# Altium integrated library Infineon_Power_Supply_Voltage_Regulator.IntLib: 346 symbols (part 10 of 16)
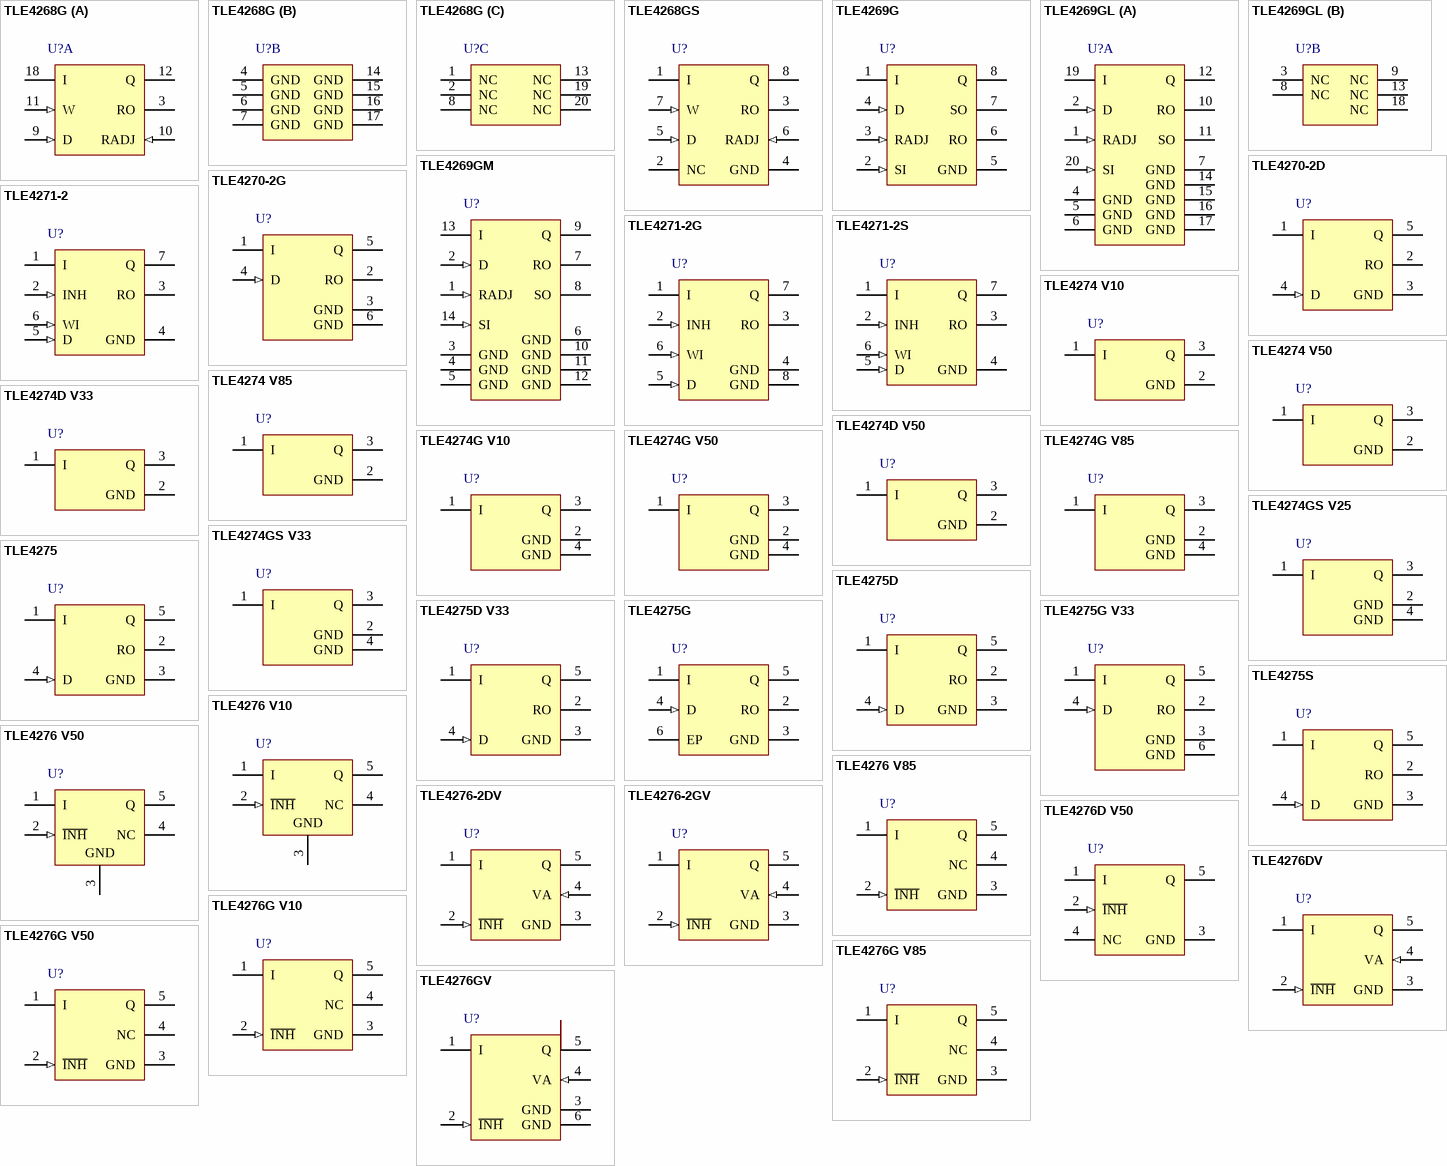
[diagram p18: symbols TLE4268G to TLE4276GV]

## TLE4276G V85
designator U?
Low Drop Voltage Regulator, 9 to 40 V Supply, 8.5 V Output, -40 to 150 degC, PG-TO263-5-1, Reel, Green; Manufacturer: Infineon; PartNumber: TLE4276G V85; Accuracy: 4 %; Dropout Voltage: 250 mV; Green: TRUE; Max. Output Current: 400 mA; Operating Range: 9 to 40 V; Output Voltage: 8.5V; Regulator Type: single output; Typical Quiescent Current: 100 uA; DatasheetVersion: Rev. 2.7; PackageVersion: Sep-08; PackageReference: PG-TO263-5-1; PackageDescription: 5-Pin Plastic (Green) Transistor Single Outline Package, 10 x 9.25 mm Body, 1.7 mm Pitch; Supplier 1: Digi-Key; Supplier Part Number 1: TLE4276G V85INTR-ND; Supplier 2: Digi-Key; Supplier Part Number 2: TLE4276G V85INCT-ND; Supplier 3: Digi-Key; Supplier Part Number 3: TLE4276G V85INDKR-ND; Halogen-free: TRUE; Packing: Reel; Mounting Technology: Surface Mount; ComponentLink1Description: Manufacturer URL; ComponentLink1URL: http://www.infineon.com/; ComponentLink2Description: Datasheet; ComponentLink2URL: http://www.infineon.com/dgdl/TLE4276_DS_27%5B1%5D.pdf?folderId=db3a30431ddc9372011e26863f92474e&fileId=db3a304325305e6d012559b3faeb46ce&location=en.Products.Automotive_ICs.Linear_Voltage_Regulators_for_Automotive-Applications.Linear_Voltage_Regulators_-_Selection_Table.DATASHEET.TLE4276_DS_27[1].pdf; ComponentLink3Description: Package Specification; ComponentLink3URL: http://www.infineon.com/dgdl/TLE4675_DS10.pdf?folderId=db3a30431ddc9372011e26863f92474e&fileId=db3a30431ff9881501201fa645654e52&sId=db3a30433d68e984013d8b6677a5267d
footprint INF-PG-TO263-5-1_N (DPAK, 5-Leads, Body 10x9.25mm, Pitch 1.7mm, IPC Medium Density)
footprint INF-PG-TO263-5-1_L (DPAK, 5-Leads, Body 10x9.25mm, Pitch 1.7mm, IPC High Density)
footprint INF-PG-TO263-5-1_M (DPAK, 5-Leads, Body 10x9.25mm, Pitch 1.7mm, IPC Low Density)
pins: 1 I (power) "Input; block to ground directly at the IC with a ceramic capacitor.", 2 ~{INH} (in) "Inhibit; low-active input.", 3 GND (power) "Ground", 4 NC "Not connected for V50, V85, V10", 5 Q (power) "Output; block to GND with a = 22 uF capacitor, ESR = 3 ohm at 10 kHz"

## TLE4276GV
designator U?
Low Drop Voltage Regulator, 4.5 to 40 V Supply, Adjustable Output, -40 to 150 degC, PG-TO263-5-1, Reel, Green; Manufacturer: Infineon; PartNumber: TLE4276GV; Accuracy: 4 %; Dropout Voltage: 250 mV; Green: TRUE; Max. Output Current: 400 mA; Output Voltage: adj.; Regulator Type: single output; Typical Quiescent Current: 100 uA; DatasheetVersion: Rev. 2.7; PackageVersion: Sep-08; PackageReference: PG-TO263-5-1; PackageDescription: 5-Pin Plastic (Green) Transistor Single Outline Package, 10 x 9.25 mm Body, 1.7 mm Pitch; Supplier 1: Mouser; Supplier Part Number 1: 726-TLE4276GV; Supplier 2: Digi-Key; Supplier Part Number 2: TLE4276GVINTR-ND; Supplier 3: Digi-Key; Supplier Part Number 3: TLE4276GVINCT-ND; Supplier 4: Digi-Key; Supplier Part Number 4: TLE4276GVINDKR-ND; Halogen-free: TRUE; Operating Range: 4.5 to 40 V; Packing: Reel; Mounting Technology: Surface Mount; ComponentLink1Description: Manufacturer URL; ComponentLink1URL: http://www.infineon.com/; ComponentLink2Description: Datasheet; ComponentLink2URL: http://www.infineon.com/dgdl/TLE4276_DS_27.pdf?folderId=db3a304318f3fe290118f5a433570040&fileId=db3a30431c48a312011c5093e2fe003f&location=en.Products.Automotive_ICs.Linear_Voltage_Regulators_for_Automotive-Applications.Linear_Voltage_Regulators_-_Selection_Table.DATASHEET.TLE4276_DS_27.pdf; ComponentLink3Description: Package Specification; ComponentLink3URL: http://www.infineon.com/dgdl/TLE4675_DS10.pdf?folderId=db3a30431ddc9372011e26863f92474e&fileId=db3a30431ff9881501201fa645654e52&sId=db3a30433d68e984013d8b6677a5267d
footprint INF-PG-TO263-5-1_N (DPAK, 5-Leads, Body 10x9.25mm, Pitch 1.7mm, IPC Medium Density)
footprint INF-PG-TO263-5-1_L (DPAK, 5-Leads, Body 10x9.25mm, Pitch 1.7mm, IPC High Density)
footprint INF-PG-TO263-5-1_M (DPAK, 5-Leads, Body 10x9.25mm, Pitch 1.7mm, IPC Low Density)
pins: 1 I (power) "Input; block to ground directly at the IC with a ceramic capacitor.", 2 ~{INH} (in) "Inhibit; low-active input.", 3 GND (power) "Ground", 4 VA (in) "Voltage Adjust Input; only for adjustable version. Connect an external voltage divider to determine the output voltage.", 5 Q (power) "Output; block to GND with a >= 22 uF capacitor, ESR =< 3 ohm at 10 kHz", 6 GND (power) "Connect to GND."

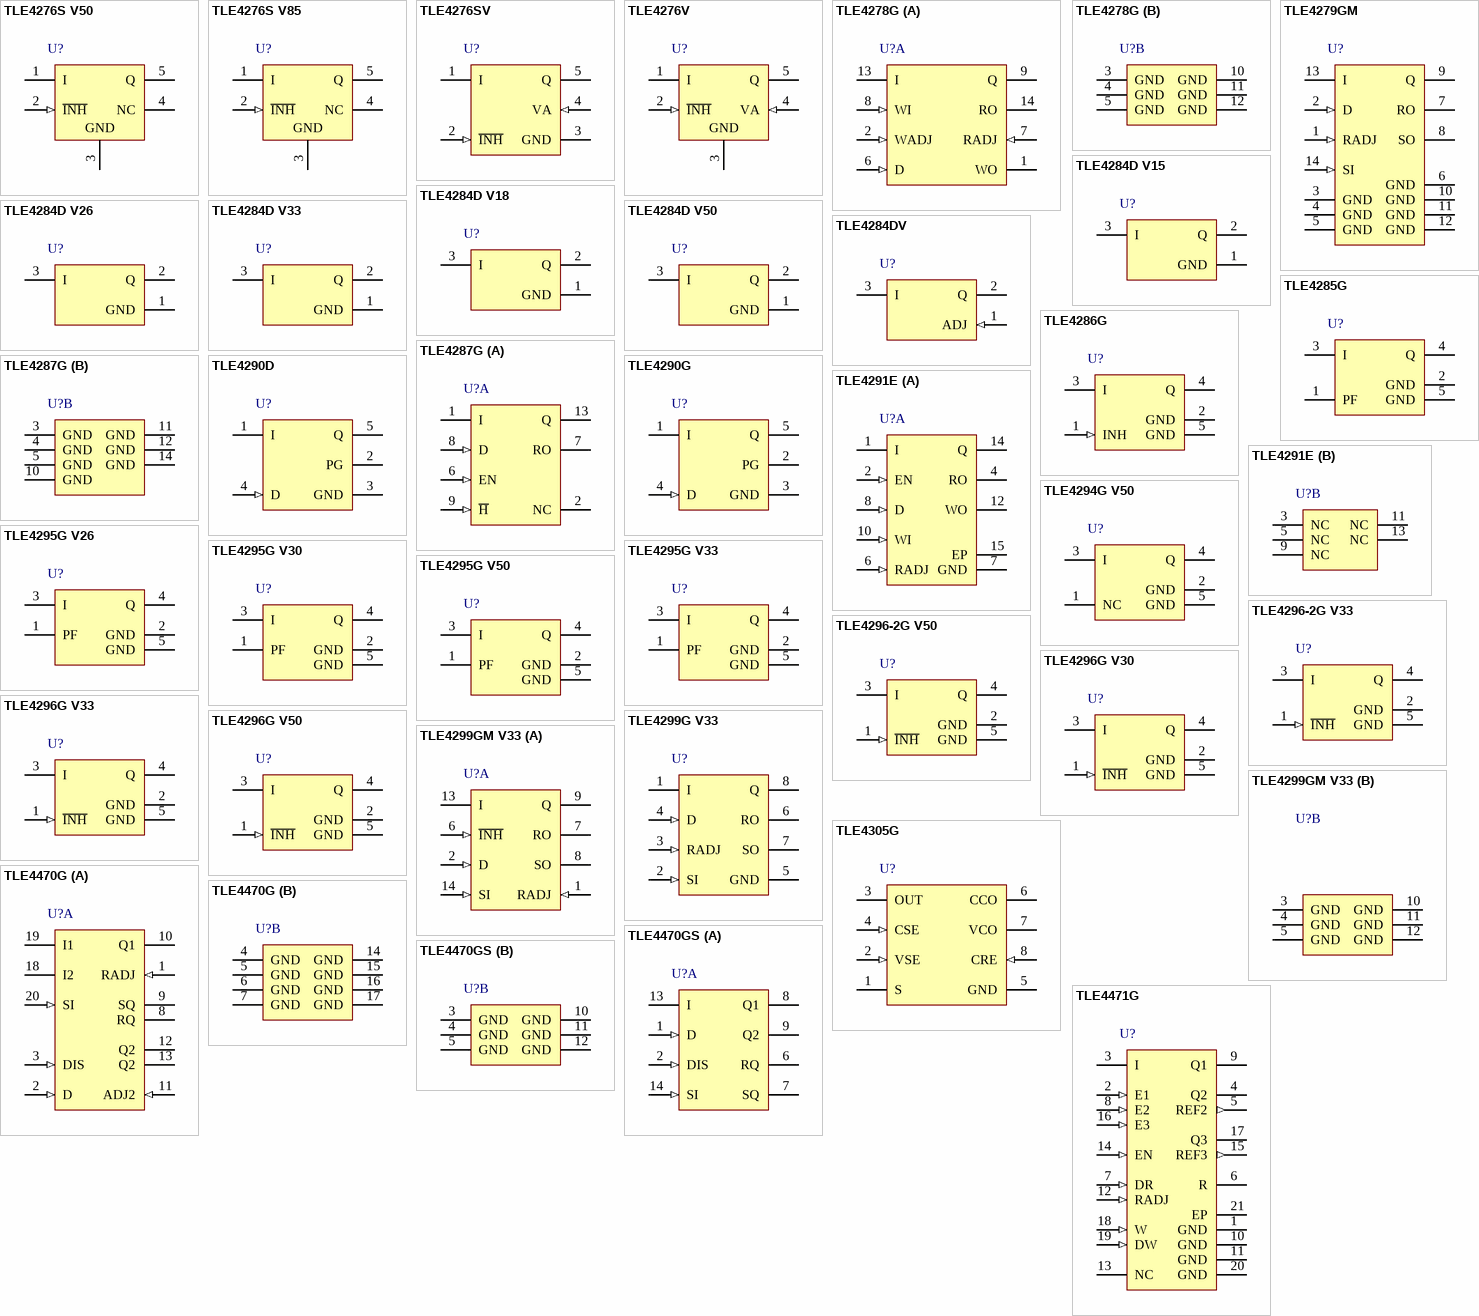
[diagram p6: symbols TLE4276S V50 to TLE4471G]

## TLE4276S V50
designator U?
Low Drop Voltage Regulator, -40 to 150 degC, PG-TO220-5-12, Tube, Green; Manufacturer: Infineon; PartNumber: TLE4276S V50; Green: TRUE; IQ (max): 1,100 mA; Iq (typ): 100 uA; VQ (max): 5.2 V; DatasheetVersion: Rev. 2.7; PackageVersion: Oct-07; PackageReference: PG-TO220-5-12; PackageDescription: 5-Pin Plastic (Green) Transistor Single Outline Package, 10 x 9.25 mm Body, 1.7 mm Pitch; Supplier 1: Digi-Key; Supplier Part Number 1: TLE4276S V50TR-ND; Supplier 2: Digi-Key; Supplier Part Number 2: TLE4276S V50-ND; Halogen-free: TRUE; Packing: Tube; Mounting Technology: Through Hole; ComponentLink1Description: Manufacturer URL; ComponentLink1URL: http://www.infineon.com/; ComponentLink2Description: Datasheet; ComponentLink2URL: http://www.infineon.com/dgdl/TLE4276_DS_27.pdf?folderId=db3a304318f3fe290118f5a433570040&fileId=db3a30431c48a312011c5093e2fe003f; ComponentLink3Description: Package Specification; ComponentLink3URL: http://www.infineon.com/dgdl/TLE4276_DS_27.pdf?folderId=db3a304318f3fe290118f5a433570040&fileId=db3a30431c48a312011c5093e2fe003f&sId=db3a30443d67b5ca013d81e346312d68
footprint INF-PG-TO220-5-12 (FM, 5-Leads, Body 10x4.4mm, Pitch 1.7mm)
pins: 1 I (power) "Input; block to ground directly at the IC with a ceramic capacitor", 2 ~{INH} (in) "Inhibit; low-active input.", 3 GND (power) "Ground", 4 NC "Not connected for V50, V85, V10", 5 Q (power) "Output; block to GND with a >= 22 uF capacitor, ESR =< 3 ohm at 10 kHz"

## TLE4276S V85
designator U?
Low Drop Voltage Regulator, -40 to 150 degC, PG-TO220-5-12, Tube, Green; Manufacturer: Infineon; PartNumber: TLE4276S V85; Green: TRUE; IQ (max): 1,100 mA; Iq (typ): 100 uA; VQ (max): 8.84 V; DatasheetVersion: Rev. 2.7; PackageVersion: Oct-07; PackageReference: PG-TO220-5-12; PackageDescription: 5-Pin Plastic (Green) Transistor Single Outline Package, 10 x 9.25 mm Body, 1.7 mm Pitch; Supplier 1: Digi-Key; Supplier Part Number 1: TLE4276S V85INTR-ND; Supplier 2: Digi-Key; Supplier Part Number 2: TLE4276S V85INCT-ND; Halogen-free: TRUE; Packing: Tube; Mounting Technology: Through Hole; ComponentLink1Description: Manufacturer URL; ComponentLink1URL: http://www.infineon.com/; ComponentLink2Description: Datasheet; ComponentLink2URL: http://www.infineon.com/dgdl/TLE4276_DS_27.pdf?folderId=db3a304318f3fe290118f5a433570040&fileId=db3a30431c48a312011c5093e2fe003f; ComponentLink3Description: Package Specification; ComponentLink3URL: http://www.infineon.com/dgdl/TLE4276_DS_27.pdf?folderId=db3a304318f3fe290118f5a433570040&fileId=db3a30431c48a312011c5093e2fe003f&sId=db3a30443d67b5ca013d81e346312d68
footprint INF-PG-TO220-5-12 (FM, 5-Leads, Body 10x4.4mm, Pitch 1.7mm)
pins: 1 I (power) "Input; block to ground directly at the IC with a ceramic capacitor", 2 ~{INH} (in) "Inhibit; low-active input.", 3 GND (power) "Ground", 4 NC "Not connected for V50, V85, V10", 5 Q (power) "Output; block to GND with a >= 22 uF capacitor, ESR =< 3 ohm at 10 kHz"

## TLE4276SV
designator U?
Low Drop Voltage Regulator, 4.5 to 40 V Supply, Adjustable Output, -40 to 150 degC, PG-TO220-5-12, Tube, Green; Manufacturer: Infineon; PartNumber: TLE4276SV; Accuracy: 4 %; Dropout Voltage: 250 mV; Green: TRUE; Max. Output Current: 400 mA; Output Voltage: adj.; Regulator Type: single output; Typical Quiescent Current: 100 uA; DatasheetVersion: Rev. 2.7; PackageVersion: Oct-07; PackageReference: PG-TO220-5-12; PackageDescription: 5-Pin Plastic (Green) Transistor Single Outline Package, 10 x 9.25 mm Body, 1.7 mm Pitch; Supplier 1: Mouser; Supplier Part Number 1: 726-TLE4276SV; Supplier 2: Digi-Key; Supplier Part Number 2: TLE4276SV-ND; Supplier 3: Digi-Key; Supplier Part Number 3: TLE4276SVTR-ND; Halogen-free: TRUE; Operating Range: 4.5 to 40 V; Packing: Tube; Mounting Technology: Through Hole; ComponentLink1Description: Manufacturer URL; ComponentLink1URL: http://www.infineon.com/; ComponentLink2Description: Datasheet; ComponentLink2URL: http://www.infineon.com/dgdl/TLE4276_DS_27.pdf?folderId=db3a304318f3fe290118f5a433570040&fileId=db3a30431c48a312011c5093e2fe003f&location=en.Products.Automotive_ICs.Linear_Voltage_Regulators_for_Automotive-Applications.Linear_Voltage_Regulators_-_Selection_Table.DATASHEET.TLE4276_DS_27.pdf; ComponentLink3Description: Package Specification; ComponentLink3URL: http://www.infineon.com/dgdl/TLE4276_DS_27.pdf?folderId=db3a304318f3fe290118f5a433570040&fileId=db3a30431c48a312011c5093e2fe003f&sId=db3a30443d67b5ca013d81e346312d68
footprint INF-PG-TO220-5-12 (FM, 5-Leads, Body 10x4.4mm, Pitch 1.7mm)
pins: 1 I (power) "Input; block to ground directly at the IC with a ceramic capacitor.", 2 ~{INH} (in) "Inhibit; low-active input.", 3 GND (power) "Ground", 4 VA (in) "Voltage Adjust Input; only for adjustable version. Connect an external voltage divider to determine the output voltage.", 5 Q (power) "Output; block to GND with a = 22 μF capacitor, ESR = 3 O at 10 kHz"

## TLE4276V
designator U?
Low Drop Voltage Regulator, -40 to 150 degC, PG-TO220-5-11, Tube, Green; Manufacturer: Infineon; PartNumber: TLE4276V; Green: TRUE; IQ (max): 1,100 mA; Iq (typ): 100 uA; DatasheetVersion: Rev. 2.7; PackageVersion: Jan-10; PackageReference: PG-TO220-5-11; PackageDescription: 5-Pin Plastic (Green) Transistor Single Outline Package, 10 x 9.25 mm, 1.7 mm Pitch; Supplier 1: Mouser; Supplier Part Number 1: 726-TLE4276V; Supplier 2: Digi-Key; Supplier Part Number 2: TLE4276V-ND; Supplier 3: Digi-Key; Supplier Part Number 3: TLE4276VTR-ND; Halogen-free: TRUE; Packing: Tube; Mounting Technology: Through Hole; ComponentLink1Description: Manufacturer URL; ComponentLink1URL: http://www.infineon.com/; ComponentLink2Description: Datasheet; ComponentLink2URL: http://www.infineon.com/dgdl/TLE4276_DS_27.pdf?folderId=db3a304318f3fe290118f5a433570040&fileId=db3a30431c48a312011c5093e2fe003f; ComponentLink3Description: Package Specification; ComponentLink3URL: http://www.infineon.com/dgdl/TLE4276_DS_27.pdf?folderId=db3a304318f3fe290118f5a433570040&fileId=db3a30431c48a312011c5093e2fe003f&sId=db3a30433f2e70c5013f3f007fea3cf1
footprint INF-PG-TO220-5-11 (FM, 5-Leads, Body 10x4.4mm, Pitch 1.7mm)
pins: 1 I (power) "Input; block to ground directly at the IC with a ceramic capacitor", 2 ~{INH} (in) "Inhibit; low-active input.", 3 GND (power) "Ground", 4 VA (in) "Voltage Adjust Input; only for adjustable version. Connect an external voltage divider to determine the output voltage.", 5 Q (power) "Output; block to GND with a >= 22 uF capacitor, ESR =< 3 ohm at 10 kHz"

## TLE4278G
designator U?
Low Drop Fixed Voltage Regulator, 5.5 to 45 V Supply, 5 V Output, -40 to 150 degC, PG-DSO-14-30, Reel, Green; Manufacturer: Infineon; PartNumber: TLE4278G; Accuracy: 2 %; Dropout Voltage: 250 mV; Green: TRUE; Max. Output Current: 400 mA; Output Voltage: 5V; Regulator Type: single output; Typical Quiescent Current: 180 uA; DatasheetVersion: Rev. 1.4; PackageVersion: Oct-07; PackageReference: PG-DSO-14-30; PackageDescription: 14-Pin Plastic (Green) Dual Small Outline Package, 8.65 x 3.9 mm Body, 1.27 mm Pitch; Supplier 1: Mouser; Supplier Part Number 1: 726-TLE4278G; Supplier 2: Digi-Key; Supplier Part Number 2: TLE4278GINTR-ND; Supplier 3: Digi-Key; Supplier Part Number 3: TLE4278GINCT-ND; Supplier 4: Digi-Key; Supplier Part Number 4: TLE4278GINDKR-ND; Halogen-free: TRUE; Operating Range: 5.5 to 45 V; Packing: Reel; Mounting Technology: Surface Mount; ComponentLink1Description: Manufacturer URL; ComponentLink1URL: http://www.infineon.com/; ComponentLink2Description: Datasheet; ComponentLink2URL: http://www.infineon.com/dgdl/TLE4278_DS_14.pdf?folderId=db3a304318f3fe290118f5a433570040&fileId=db3a30431c48a312011c51c1ff9901cd&location=en.Products.Automotive_ICs.Linear_Voltage_Regulators_for_Automotive-Applications.Linear_Voltage_Regulators_-_Selection_Table.DATASHEET.TLE4278_DS_14.pdf; ComponentLink3Description: Package Specification; ComponentLink3URL: http://www.infineon.com/dgdl/TLE4299v33_DS_11%5B1%5D.pdf?folderId=db3a304318f3fe290118f5a433570040&fileId=db3a30431c48a312011c55c733b0022b&sId=db3a30433d68e984013d8b6475e4267b
footprint INF-PG-DSO-14-30_N (SOP, 14-Leads, Body 8.65x3.9mm, Pitch 1.27mm, IPC Medium Density)
footprint INF-PG-DSO-14-30_L (SOP, 14-Leads, Body 8.65x3.9mm, Pitch 1.27mm, IPC High Density)
footprint INF-PG-DSO-14-30_M (SOP, 14-Leads, Body 8.65x3.9mm, Pitch 1.27mm, IPC Low Density)
part A pins: 1 WO (oc) "Watchdog Output. Open collector output with an internal pull-up resistor to the output Q. An additional external pull-up resistor to the output Q is optional. Leave open if the watchdog function is not needed.", 2 WADJ (in) "Watchdog Activating Threshold Adjust. An external resistor to GND determines the watchdog activating threshold. Connect directly to GND for disabling the watchdog. Connect directly to GND if the watchdog function is not (See Datasheet)", 6 D (in) "Reset Delay and Watchdog Timing. Connect a ceramic capacitor D(pin 6) to GND for reset delay and watchdog timing adjustment. Leave only open if both, the reset and the watchdog function are not needed.", 7 RADJ (in) "Reset Switching Threshold Adjust. For reset threshold adjustment connect to a voltage divider from output Q to GND.For triggering the reset at the internally determined threshold, connect this pin directly to GND. Connect (See Datasheet)", 8 WI (in) "Watchdog Input. Positive edge triggered input, usable for microcontroller monitoring. Connect to GND if the watchdog function is not needed.", 9 Q (power) "5 V Regulator Output. Block to GND with a capacitor close to the IC pins, respecting capacitance and ESR requirements given in the Chapter 4.2 Functional Range.", 13 I (power) "Regulator Input and IC Supply. For compensating line influences, a capacitor to GND close to the IC pins is recommended.", 14 RO (oc) "Reset Output. Open collector output with an internal pull-up resistor to the output Q. An additional exteranl pull-up resistor to the output Q is optional. Leave open if the reset function is not needed."
part B pins: 3 GND (power) "IC Ground. Interconnect the GND pins on PCB. Connect to heat sink area.", 4 GND (power) "IC Ground. Interconnect the GND pins on PCB. Connect to heat sink area.", 5 GND (power) "IC Ground. Interconnect the GND pins on PCB. Connect to heat sink area.", 10 GND (power) "IC Ground. Interconnect the GND pins on PCB. Connect to heat sink area.", 11 GND (power) "IC Ground. Interconnect the GND pins on PCB. Connect to heat sink area.", 12 GND (power) "IC Ground. Interconnect the GND pins on PCB. Connect to heat sink area."

## TLE4279GM
designator U?
Low Drop Fixed Voltage Regulator, 5.5 to 45 V Supply, 5 V Output, -40 to 150 degC, PG-DSO-14-30, Reel, Green; Manufacturer: Infineon; PartNumber: TLE4279GM; Accuracy: 2 %; Dropout Voltage: 250 mV; Green: TRUE; Output Voltage: 5V; Regulator Type: single output; Typical Quiescent Current: 150 uA; DatasheetVersion: Rev. 2.4; PackageVersion: Oct-07; PackageReference: PG-DSO-14-30; PackageDescription: 14-Pin Plastic (Green) Dual Small Outline Package, 8.65 x 3.9 mm Body, 1.27 mm Pitch; Supplier 1: Mouser; Supplier Part Number 1: 726-TLE4279GM; Supplier 2: Digi-Key; Supplier Part Number 2: TLE4279GMTR-ND; Supplier 3: Digi-Key; Supplier Part Number 3: TLE4279GMCT-ND; Supplier 4: Digi-Key; Supplier Part Number 4: TLE4279GMDKR-ND; Halogen-free: TRUE; Operating Range: 5.5 to 45 V; Packing: Reel; Mounting Technology: Surface Mount; ComponentLink1Description: Manufacturer URL; ComponentLink1URL: http://www.infineon.com/; ComponentLink2Description: Datasheet; ComponentLink2URL: http://www.infineon.com/dgdl/TLE4279_DS_24.pdf?folderId=db3a304318f3fe290118f5a433570040&fileId=db3a304326dfb13001271f64a1034f13&location=en.Products.Automotive_ICs.Linear_Voltage_Regulators_for_Automotive-Applications.Linear_Voltage_Regulators_-_Selection_Table.DATASHEET.TLE4279_DS_24.pdf; ComponentLink3Description: Package Specification; ComponentLink3URL: http://www.infineon.com/dgdl/TLE4299v33_DS_11%5B1%5D.pdf?folderId=db3a304318f3fe290118f5a433570040&fileId=db3a30431c48a312011c55c733b0022b&sId=db3a30433d68e984013d8b6475e4267b
footprint INF-PG-DSO-14-30_N (SOP, 14-Leads, Body 8.65x3.9mm, Pitch 1.27mm, IPC Medium Density)
footprint INF-PG-DSO-14-30_L (SOP, 14-Leads, Body 8.65x3.9mm, Pitch 1.27mm, IPC High Density)
footprint INF-PG-DSO-14-30_M (SOP, 14-Leads, Body 8.65x3.9mm, Pitch 1.27mm, IPC Low Density)
pins: 1 RADJ (in) "Reset threshold adjust; if not needed connect to GND", 2 D (in) "Reset delay; connect to GND via external delay capacitor for  setting delay time", 3 GND (power) "Ground", 4 GND (power) "Ground", 5 GND (power) "Ground", 6 GND (power) "Ground", 7 RO (oc) "Reset output; open-collector output. Keep open, if not needed", 8 SO (oc) "Sense output; open-collector output. Keep open, if not needed", 9 Q (power) "5-V output; connect to GND via 10 µF capacitor, ESR < 10 ohm", 10 GND (power) "Ground", 11 GND (power) "Ground", 12 GND (power) "Ground", 13 I (power) "Input; block to GND directly at the IC by a ceramic capacitor", 14 SI (in) "Sense input; if not needed connect to Q"

## TLE4284D V15
designator U?
Voltage Regulator, 2.9 to 40 V Supply, 1.5 V Output, -40 to 150 degC, PG-TO252-3-11, Reel, Green; Manufacturer: Infineon; PartNumber: TLE4284D V15; Accuracy: 3 %; Dropout Voltage: 1300 mV; Green: TRUE; Max. Output Current: 1000 mA; Output Voltage: 1.5V; Regulator Type: single output; Typical Quiescent Current: 800 uA; DatasheetVersion: Rev. 2.1; PackageVersion: Dec-06; PackageReference: PG-TO252-3-11; PackageDescription: 3-Pin Plastic (Green) Transistor Single Outline Package, 6.5 x 6.12 mm Body, 2.28 mm Pitch; Supplier 1: Mouser; Supplier Part Number 1: 726-TLE4284DV15; Supplier 2: Digi-Key; Supplier Part Number 2: TLE4284D V15TR-ND; Supplier 3: Digi-Key; Supplier Part Number 3: TLE4284D V15CT-ND; Supplier 4: Digi-Key; Supplier Part Number 4: TLE4284D V15DKR-ND; Halogen-free: TRUE; Operating Range: 2.9 to 40 V; Packing: Reel; Mounting Technology: Surface Mount; ComponentLink1Description: Manufacturer URL; ComponentLink1URL: http://www.infineon.com/; ComponentLink2Description: Datasheet; ComponentLink2URL: http://www.infineon.com/dgdl/TLE4284_DS_21.pdf?folderId=db3a304318f3fe290118f5a433570040&fileId=db3a30431c48a312011c51ca22f501de&location=en.Products.Automotive_ICs.Linear_Voltage_Regulators_for_Automotive-Applications.Linear_Voltage_Regulators_-_Selection_Table.DATASHEET.TLE4284_DS_21.pdf; ComponentLink3Description: Package Specification; ComponentLink3URL: http://www.infineon.com/dgdl/BTS142_DS_13.pdf?folderId=db3a3043163797a6011667aa084c0e01&fileId=db3a3043163797a6011667ac98be0e02&location=en.Products.Automotive_ICs.Smart_High-_and_Low-Side_Switches.HITFET___TEMPFET__-_Smart_Low-Side_Switches.DATASHEET.BTS142_DS_13.pdf
footprint INF-PG-TO252-3-11_N (DPAK, 3-Leads, Body 6.5x6.12mm, Pitch 2.28mm, IPC Medium Density)
footprint INF-PG-TO252-3-11_L (DPAK, 3-Leads, Body 6.5x6.12mm, Pitch 2.28mm, IPC High Density)
footprint INF-PG-TO252-3-11_M (DPAK, 3-Leads, Body 6.5x6.12mm, Pitch 2.28mm, IPC Low Density)
pins: 1 GND (power) "Ground", 2 Q (power) "Output; Connect output pin to GND via a capacitor CQ >= 10 uF  with ESR =< 10 ohm.  Connect to heatsink area.", 3 I (power) "Input"

## TLE4284D V18
designator U?
Voltage Regulator, 3.2 to 40 V Supply, 1.8 V Output, -40 to 150 degC, PG-TO252-3-11, Reel, Green; Manufacturer: Infineon; PartNumber: TLE4284D V18; Accuracy: 3 %; Dropout Voltage: 1300 mV; Green: TRUE; Max. Output Current: 1000 mA; Output Voltage: 1.8V; Regulator Type: single output; Typical Quiescent Current: 800 uA; DatasheetVersion: Rev. 2.1; PackageVersion: Dec-06; PackageReference: PG-TO252-3-11; PackageDescription: 3-Pin Plastic (Green) Transistor Single Outline Package, 6.5 x 6.12 mm Body, 2.28 mm Pitch; Supplier 1: Mouser; Supplier Part Number 1: 726-TLE4284DV18; Supplier 2: Digi-Key; Supplier Part Number 2: TLE4284D V18TR-ND; Supplier 3: Digi-Key; Supplier Part Number 3: TLE4284D V18CT-ND; Supplier 4: Digi-Key; Supplier Part Number 4: TLE4284D V18DKR-ND; Halogen-free: TRUE; Operating Range: 3.2 to 40 V; Packing: Reel; Mounting Technology: Surface Mount; ComponentLink1Description: Manufacturer URL; ComponentLink1URL: http://www.infineon.com/; ComponentLink2Description: Datasheet; ComponentLink2URL: http://www.infineon.com/dgdl/TLE4284_DS_21.pdf?folderId=db3a304318f3fe290118f5a433570040&fileId=db3a30431c48a312011c51ca22f501de&location=en.Products.Automotive_ICs.Linear_Voltage_Regulators_for_Automotive-Applications.Linear_Voltage_Regulators_-_Selection_Table.DATASHEET.TLE4284_DS_21.pdf; ComponentLink3Description: Package Specification; ComponentLink3URL: http://www.infineon.com/dgdl/BTS142_DS_13.pdf?folderId=db3a3043163797a6011667aa084c0e01&fileId=db3a3043163797a6011667ac98be0e02&location=en.Products.Automotive_ICs.Smart_High-_and_Low-Side_Switches.HITFET___TEMPFET__-_Smart_Low-Side_Switches.DATASHEET.BTS142_DS_13.pdf
footprint INF-PG-TO252-3-11_N (DPAK, 3-Leads, Body 6.5x6.12mm, Pitch 2.28mm, IPC Medium Density)
footprint INF-PG-TO252-3-11_L (DPAK, 3-Leads, Body 6.5x6.12mm, Pitch 2.28mm, IPC High Density)
footprint INF-PG-TO252-3-11_M (DPAK, 3-Leads, Body 6.5x6.12mm, Pitch 2.28mm, IPC Low Density)
pins: 1 GND (power) "Ground", 2 Q (power) "Output; Connect output pin to GND via a capacitor CQ >= 10 uF  with ESR =< 10 ohm.  Connect to heatsink area.", 3 I (power) "Input"

## TLE4284D V26
designator U?
Voltage Regulator, 4 to 40 V Supply, 2.6 V Output, -40 to 150 degC, PG-TO252-3-11, Reel, Green; Manufacturer: Infineon; PartNumber: TLE4284D V26; Accuracy: 3 %; Dropout Voltage: 1300 mV; Green: TRUE; Max. Output Current: 1000 mA; Operating Range: 4 to 40 V; Output Voltage: 2.6V; Regulator Type: single output; Typical Quiescent Current: 800 uA; DatasheetVersion: Rev. 2.1; PackageVersion: Dec-06; PackageReference: PG-TO252-3-11; PackageDescription: 3-Pin Plastic (Green) Transistor Single Outline Package, 6.5 x 6.12 mm Body, 2.28 mm Pitch; Supplier 1: Mouser; Supplier Part Number 1: 726-TLE4284DV26; Supplier 2: Digi-Key; Supplier Part Number 2: TLE4284D V26INTR-ND; Supplier 3: Digi-Key; Supplier Part Number 3: TLE4284D V26INCT-ND; Supplier 4: Digi-Key; Supplier Part Number 4: TLE4284D V26INDKR-ND; Halogen-free: TRUE; Packing: Reel; Mounting Technology: Surface Mount; ComponentLink1Description: Manufacturer URL; ComponentLink1URL: http://www.infineon.com/; ComponentLink2Description: Datasheet; ComponentLink2URL: http://www.infineon.com/dgdl/TLE4284_DS_21.pdf?folderId=db3a304318f3fe290118f5a433570040&fileId=db3a30431c48a312011c51ca22f501de&location=en.Products.Automotive_ICs.Linear_Voltage_Regulators_for_Automotive-Applications.Linear_Voltage_Regulators_-_Selection_Table.DATASHEET.TLE4284_DS_21.pdf; ComponentLink3Description: Package Specification; ComponentLink3URL: http://www.infineon.com/dgdl/BTS142_DS_13.pdf?folderId=db3a3043163797a6011667aa084c0e01&fileId=db3a3043163797a6011667ac98be0e02&location=en.Products.Automotive_ICs.Smart_High-_and_Low-Side_Switches.HITFET___TEMPFET__-_Smart_Low-Side_Switches.DATASHEET.BTS142_DS_13.pdf
footprint INF-PG-TO252-3-11_N (DPAK, 3-Leads, Body 6.5x6.12mm, Pitch 2.28mm, IPC Medium Density)
footprint INF-PG-TO252-3-11_L (DPAK, 3-Leads, Body 6.5x6.12mm, Pitch 2.28mm, IPC High Density)
footprint INF-PG-TO252-3-11_M (DPAK, 3-Leads, Body 6.5x6.12mm, Pitch 2.28mm, IPC Low Density)
pins: 1 GND (power) "Ground", 2 Q (power) "Output; Connect output pin to GND via a capacitor CQ >= 10 uF  with ESR =< 10 ohm.  Connect to heatsink area.", 3 I (power) "Input"

## TLE4284D V33
designator U?
Voltage Regulator, 4.7 to 40 V Supply, 3.3 V Output, -40 to 150 degC, PG-TO252-3-11, Reel, Green; Manufacturer: Infineon; PartNumber: TLE4284D V33; Accuracy: 3 %; Dropout Voltage: 1300 mV; Green: TRUE; Max. Output Current: 1000 mA; Output Voltage: 3.3V; Regulator Type: single output; Typical Quiescent Current: 800 uA; DatasheetVersion: Rev. 2.1; PackageVersion: Dec-06; PackageReference: PG-TO252-3-11; PackageDescription: 3-Pin Plastic (Green) Transistor Single Outline Package, 6.5 x 6.12 mm Body, 2.28 mm Pitch; Supplier 1: Mouser; Supplier Part Number 1: 726-TLE4284DV33; Supplier 2: Digi-Key; Supplier Part Number 2: TLE4284D V33TR-ND; Supplier 3: Digi-Key; Supplier Part Number 3: TLE4284D V33CT-ND; Supplier 4: Digi-Key; Supplier Part Number 4: TLE4284D V33DKR-ND; Halogen-free: TRUE; Operating Range: 4.7 to 40 V; Packing: Reel; Mounting Technology: Surface Mount; ComponentLink1Description: Manufacturer URL; ComponentLink1URL: http://www.infineon.com/; ComponentLink2Description: Datasheet; ComponentLink2URL: http://www.infineon.com/dgdl/TLE4284_DS_21.pdf?folderId=db3a304318f3fe290118f5a433570040&fileId=db3a30431c48a312011c51ca22f501de&location=en.Products.Automotive_ICs.Linear_Voltage_Regulators_for_Automotive-Applications.Linear_Voltage_Regulators_-_Selection_Table.DATASHEET.TLE4284_DS_21.pdf; ComponentLink3Description: Package Specification; ComponentLink3URL: http://www.infineon.com/dgdl/BTS142_DS_13.pdf?folderId=db3a3043163797a6011667aa084c0e01&fileId=db3a3043163797a6011667ac98be0e02&location=en.Products.Automotive_ICs.Smart_High-_and_Low-Side_Switches.HITFET___TEMPFET__-_Smart_Low-Side_Switches.DATASHEET.BTS142_DS_13.pdf
footprint INF-PG-TO252-3-11_N (DPAK, 3-Leads, Body 6.5x6.12mm, Pitch 2.28mm, IPC Medium Density)
footprint INF-PG-TO252-3-11_L (DPAK, 3-Leads, Body 6.5x6.12mm, Pitch 2.28mm, IPC High Density)
footprint INF-PG-TO252-3-11_M (DPAK, 3-Leads, Body 6.5x6.12mm, Pitch 2.28mm, IPC Low Density)
pins: 1 GND (power) "Ground", 2 Q (power) "Output; Connect output pin to GND via a capacitor CQ >= 10 uF  with ESR =< 10 ohm.  Connect to heatsink area.", 3 I (power) "Input"

## TLE4284D V50
designator U?
Voltage Regulator, 6.4 to 40 V Supply, 5 V Output, -40 to 150 degC, PG-TO252-3-11, Reel, Green; Manufacturer: Infineon; PartNumber: TLE4284D V50; Accuracy: 3 %; Dropout Voltage: 1300 mV; Green: TRUE; Max. Output Current: 1000 mA; Output Voltage: 5V; Regulator Type: single output; Typical Quiescent Current: 800 uA; DatasheetVersion: Rev. 2.1; PackageVersion: Dec-06; PackageReference: PG-TO252-3-11; PackageDescription: 3-Pin Plastic (Green) Transistor Single Outline Package, 6.5 x 6.12 mm Body, 2.28 mm Pitch; Supplier 1: Mouser; Supplier Part Number 1: 726-TLE4284DV50; Supplier 2: Digi-Key; Supplier Part Number 2: TLE4284D V50TR-ND; Supplier 3: Digi-Key; Supplier Part Number 3: TLE4284D V50CT-ND; Supplier 4: Digi-Key; Supplier Part Number 4: TLE4284D V50DKR-ND; Halogen-free: TRUE; Operating Range: 6.4 to 40 V; Packing: Reel; Mounting Technology: Surface Mount; ComponentLink1Description: Manufacturer URL; ComponentLink1URL: http://www.infineon.com/; ComponentLink2Description: Datasheet; ComponentLink2URL: http://www.infineon.com/dgdl/TLE4284_DS_21.pdf?folderId=db3a304318f3fe290118f5a433570040&fileId=db3a30431c48a312011c51ca22f501de&location=en.Products.Automotive_ICs.Linear_Voltage_Regulators_for_Automotive-Applications.Linear_Voltage_Regulators_-_Selection_Table.DATASHEET.TLE4284_DS_21.pdf; ComponentLink3Description: Package Specification; ComponentLink3URL: http://www.infineon.com/dgdl/BTS142_DS_13.pdf?folderId=db3a3043163797a6011667aa084c0e01&fileId=db3a3043163797a6011667ac98be0e02&location=en.Products.Automotive_ICs.Smart_High-_and_Low-Side_Switches.HITFET___TEMPFET__-_Smart_Low-Side_Switches.DATASHEET.BTS142_DS_13.pdf
footprint INF-PG-TO252-3-11_N (DPAK, 3-Leads, Body 6.5x6.12mm, Pitch 2.28mm, IPC Medium Density)
footprint INF-PG-TO252-3-11_L (DPAK, 3-Leads, Body 6.5x6.12mm, Pitch 2.28mm, IPC High Density)
footprint INF-PG-TO252-3-11_M (DPAK, 3-Leads, Body 6.5x6.12mm, Pitch 2.28mm, IPC Low Density)
pins: 1 GND (power) "Ground", 2 Q (power) "Output; Connect output pin to GND via a capacitor CQ >= 10 uF  with ESR =< 10 ohm.  Connect to heatsink area.", 3 I (power) "Input"

## TLE4284DV
designator U?
Voltage Regulator, 3.2 to 40 V Supply, Adjustable Output, -40 to 150 degC, PG-TO252-3-11, Reel, Green; Manufacturer: Infineon; PartNumber: TLE4284DV; Accuracy: 3 %; Dropout Voltage: 1300 mV; Green: TRUE; Max. Output Current: 1000 mA; Output Voltage: adj.; Regulator Type: single output; Typical Quiescent Current: 1000 uA; DatasheetVersion: Rev. 2.1; PackageVersion: Dec-06; PackageReference: PG-TO252-3-11; PackageDescription: 3-Pin Plastic (Green) Transistor Single Outline Package, 6.5 x 6.12 mm Body, 2.28 mm Pitch; Supplier 1: Digi-Key; Supplier Part Number 1: TLE4284DVTR-ND; Supplier 2: Digi-Key; Supplier Part Number 2: TLE4284DVCT-ND; Supplier 3: Digi-Key; Supplier Part Number 3: TLE4284DVDKR-ND; Halogen-free: TRUE; Operating Range: 3.2 to 40 V; Packing: Reel; Mounting Technology: Surface Mount; ComponentLink1Description: Manufacturer URL; ComponentLink1URL: http://www.infineon.com/; ComponentLink2Description: Datasheet; ComponentLink2URL: http://www.infineon.com/dgdl/TLE4284_DS_21.pdf?folderId=db3a304318f3fe290118f5a433570040&fileId=db3a30431c48a312011c51ca22f501de&location=en.Products.Automotive_ICs.Linear_Voltage_Regulators_for_Automotive-Applications.Linear_Voltage_Regulators_-_Selection_Table.DATASHEET.TLE4284_DS_21.pdf; ComponentLink3Description: Package Specification; ComponentLink3URL: http://www.infineon.com/dgdl/BTS142_DS_13.pdf?folderId=db3a3043163797a6011667aa084c0e01&fileId=db3a3043163797a6011667ac98be0e02&location=en.Products.Automotive_ICs.Smart_High-_and_Low-Side_Switches.HITFET___TEMPFET__-_Smart_Low-Side_Switches.DATASHEET.BTS142_DS_13.pdf
footprint INF-PG-TO252-3-11_N (DPAK, 3-Leads, Body 6.5x6.12mm, Pitch 2.28mm, IPC Medium Density)
footprint INF-PG-TO252-3-11_L (DPAK, 3-Leads, Body 6.5x6.12mm, Pitch 2.28mm, IPC High Density)
footprint INF-PG-TO252-3-11_M (DPAK, 3-Leads, Body 6.5x6.12mm, Pitch 2.28mm, IPC Low Density)
pins: 1 ADJ (in) "Adjust; defines output voltage by external voltage divider  between Q, ADJ and GND.", 2 Q (power) "Output; Connect output pin to GND via a capacitor CQ >= 10 uF with ESR =< 10 ohm.Connect to heatsink area.", 3 I (power) "Input"

## TLE4285G
designator U?
Voltage Regulator, 6 to 42 V Supply, 5 V Output, -40 to 150 degC, PG-SCT595, Reel, Green; Manufacturer: Infineon; PartNumber: TLE4285G; Accuracy: 4 %; Dropout Voltage: 800 mV; Green: TRUE; Max. Output Current: 10 mA; Operating Range: 6 to 42 V; Output Voltage: 5V; Regulator Type: single output; Typical Quiescent Current: 100 uA; DatasheetVersion: Rev. 2.2; PackageVersion: Apr-08; PackageReference: PG-SCT595; PackageDescription: 5-Pin Semiconductor Transistor Package, 2.9 x 1.6 mm Body, 0.95 mm Pitch; Supplier 1: Mouser; Supplier Part Number 1: 726-TLE4285G; Supplier 2: Newark; Supplier Part Number 2: 47W3777; Supplier 3: Farnell; Supplier Part Number 3: 2215564; Supplier 4: Digi-Key; Supplier Part Number 4: TLE4285GTR-ND; Supplier 5: Digi-Key; Supplier Part Number 5: TLE4285GCT-ND; Supplier 6: Digi-Key; Supplier Part Number 6: TLE4285GDKR-ND; Packing: Reel; Mounting Technology: Surface Mount; ComponentLink1Description: Manufacturer URL; ComponentLink1URL: http://www.infineon.com/; ComponentLink2Description: Datasheet; ComponentLink2URL: http://www.infineon.com/dgdl/TLE4285_DS_22.pdf?folderId=db3a304412b407950112b43961f46de2&fileId=db3a304412b407950112b43962806de3&location=en.Products.Automotive_ICs.Linear_Voltage_Regulators_for_Automotive-Applications.Linear_Voltage_Regulators_-_Selection_Table.DATASHEET.TLE4285_DS_22.pdf; ComponentLink3Description: Package Specification; ComponentLink3URL: http://www.infineon.com/dgdl/SCT595-Package_Overview.pdf?folderId=db3a30431936bc4b01195289a4e23b8a&fileId=db3a30431936bc4b0119529a880d3bb2
footprint INF-PG-SCT595_V (SOT23, 5-Leads, Body 2.9x1.6mm, Pitch 0.95mm)
pins: 1 PF (oc) "Power Fail; L for under-voltage; internally connected to Q via 50 k ohm pull-up resistor", 2 GND (power) "Ground; internally connected to pin 5", 3 I (power) "Input voltage", 4 Q (power) "Output voltage; must be blocked by a capacitor CQ >= 1 uF, ESR =< 10 ohm to GND", 5 GND (power) "Ground; internally connected to pin 2"

## TLE4286G
designator U?
Voltage Regulator, 6 to 42 V Supply, 5 V Output, -40 to 150 degC, PG-SCT595, Reel, Green; Manufacturer: Infineon; PartNumber: TLE4286G; Accuracy: 4 %; Dropout Voltage: 800 mV; Max. Output Current: 10 mA; Operating Range: 6 to 42 V; Output Voltage: 5V; Regulator Type: single output; Typical Quiescent Current: 60 uA; DatasheetVersion: Rev. 2.3; PackageVersion: Apr-08; PackageReference: PG-SCT595; PackageDescription: 5-Pin Semiconductor Transistor Package, 2.9 x 1.6 mm Body, 0.95 mm Pitch; Supplier 1: Mouser; Supplier Part Number 1: 726-TLE4286G; Packing: Reel; Mounting Technology: Surface Mount; ComponentLink1Description: Manufacturer URL; ComponentLink1URL: http://www.infineon.com/; ComponentLink2Description: Datasheet; ComponentLink2URL: http://www.infineon.com/dgdl/TLE4286_DS_23.pdf?folderId=db3a304412b407950112b434e0796201&fileId=db3a304412b407950112b434e0f06202&location=en.Products.Automotive_ICs.Linear_Voltage_Regulators_for_Automotive-Applications.Linear_Voltage_Regulators_-_Selection_Table.DATASHEET.TLE4286_DS_23.pdf; ComponentLink3Description: Package Specification; ComponentLink3URL: http://www.infineon.com/dgdl/SCT595-Package_Overview.pdf?folderId=db3a30431936bc4b01195289a4e23b8a&fileId=db3a30431936bc4b0119529a880d3bb2
footprint INF-PG-SCT595_V (SOT23, 5-Leads, Body 2.9x1.6mm, Pitch 0.95mm)
pins: 1 INH (in) "Inhibit input;H for active(VQ=5V) and L for stand-by", 2 GND (power) "Ground; internally connected to pin 5", 3 I (power) "Input voltage", 4 Q (power) "Output voltage;must be blocked by a capacitor CQ>=1uF,ESR=<10ohm to GND", 5 GND (power) "Ground; internally connected to pin 2"

## TLE4287G
designator U?
Voltage Regulator, 7.5 to 42 V Supply, 5 V Output, -40 to 150 degC, PG-DSO-14-37, Reel, Green; Manufacturer: Infineon; PartNumber: TLE4287G; Accuracy: 2 %; Dropout Voltage: 1800 mV; Green: TRUE; Max. Output Current: 200 mA; Output Voltage: 5V; Regulator Type: single output; Typical Quiescent Current: 2300 uA; DatasheetVersion: Rev. 1.4; PackageVersion: Sep-07; PackageReference: PG-DSO-14-37; PackageDescription: 14-Pin Plastic (Green) Dual Small Outline Package, 8.65 x 3.9 mm Body, 1.27 mm Pitch; Supplier 1: Mouser; Supplier Part Number 1: 726-TLE4287G; Supplier 2: Digi-Key; Supplier Part Number 2: TLE4287GTR-ND; Supplier 3: Digi-Key; Supplier Part Number 3: TLE4287GCT-ND; Supplier 4: Digi-Key; Supplier Part Number 4: TLE4287GDKR-ND; Halogen-free: TRUE; Operating Range: 7.5 to 42 V; Packing: Reel; Mounting Technology: Surface Mount; ComponentLink1Description: Manufacturer URL; ComponentLink1URL: http://www.infineon.com/; ComponentLink2Description: Datasheet; ComponentLink2URL: http://www.infineon.com/dgdl/TLE4287_DS_14.pdf?folderId=db3a30431ddc9372011e26863f92474e&fileId=db3a304324fc7f9a0125121a5c3e19aa&location=en.Products.Automotive_ICs.Linear_Voltage_Regulators_for_Automotive-Applications.Linear_Voltage_Regulators_-_Selection_Table.DATASHEET.TLE4287_DS_14.pdf; ComponentLink3Description: Package Specification; ComponentLink3URL: http://www.infineon.com/dgdl/BTS723GWDS11_2007_09_25.pdf?folderId=db3a304314dca389011537739e37155f&fileId=db3a304331c8f8560131dbfec21b0da9&sId=db3a30443d67b5ca013d854df2f133e5
footprint INF-PG-DSO-14-37_N (SOP, 14-Leads, Body 8.65x3.9mm, Pitch 1.27mm, IPC Medium Density)
footprint INF-PG-DSO-14-37_L (SOP, 14-Leads, Body 8.65x3.9mm, Pitch 1.27mm, IPC High Density)
footprint INF-PG-DSO-14-37_M (SOP, 14-Leads, Body 8.65x3.9mm, Pitch 1.27mm, IPC Low Density)
part A pins: 1 I (power) "Input; block to ground directly at the IC by a ceramic capacitor", 2 NC "Not connected", 6 EN (in) "Enable; active high, device is turned ON by HIGH signal at this pin, internally connected to GND via pull-down resistor of 100k ohm", 7 RO (oc) "Reset Output; open-collector output, internally connected to Q via a pull-up resistor of 30 k ohm", 8 D (in) "Reset Delay; connect to GND via external delay capacitor for setting delay time", 9 ~{H} (in) "Hold and release; active low, see Table 1 for function, connected to Q via a pull-up resistor of 50 k ohm", 13 Q (power) "Output; block to GND with a capacitor CQ>=100 nF"
part B pins: 3 GND (power) "Ground", 4 GND (power) "Ground", 5 GND (power) "Ground", 10 GND (power) "Ground", 11 GND (power) "Ground", 12 GND (power) "Ground", 14 GND (power) "Ground"

## TLE4290D
designator U?
Low Drop Voltage Regulator, 5.5 to 42 V Supply, 5 V Output, -40 to 150 degC, PG-TO252-5-11, Reel, Green; Manufacturer: Infineon; PartNumber: TLE4290D; Accuracy: 2 %; Dropout Voltage: 250 mV; Green: TRUE; Max. Output Current: 400 mA; Output Voltage: 5V; Regulator Type: single output; Typical Quiescent Current: 200 uA; DatasheetVersion: Rev. 1.7; PackageVersion: Nov-10; PackageReference: PG-TO252-5-11; PackageDescription: 5-Pin Plastic (Green) Transistor Single Outline Package, 6.5 x 6.12 mm Body, 1.14 mm Pitch; Supplier 1: Mouser; Supplier Part Number 1: 726-TLE4290D; Supplier 2: Digi-Key; Supplier Part Number 2: TLE4290DTR-ND; Supplier 3: Digi-Key; Supplier Part Number 3: TLE4290DCT-ND; Supplier 4: Digi-Key; Supplier Part Number 4: TLE4290DDKR-ND; Halogen-free: TRUE; Operating Range: 5.5 to 42 V; Packing: Reel; Mounting Technology: Surface Mount; ComponentLink1Description: Manufacturer URL; ComponentLink1URL: http://www.infineon.com/; ComponentLink2Description: Datasheet; ComponentLink2URL: http://www.infineon.com/dgdl/TLE4290_DS_17%5B1%5D.pdf?folderId=db3a304318f3fe290118f5a433570040&fileId=db3a30431c48a312011c55bbfdbe020b&location=en.Products.Automotive_ICs.Linear_Voltage_Regulators_for_Automotive-Applications.Linear_Voltage_Regulators_-_Selection_Table.DATASHEET.TLE4290_DS_17[1].pdf; ComponentLink3Description: Package Specification; ComponentLink3URL: http://www.infineon.com/dgdl/TLE7276-Data+Sheet-+v1_11.pdf?folderId=db3a304412b407950112b408e8c90004&fileId=db3a304412b407950112b436c53f66c8&sId=db3a30433db6f09f013dc0e43c0428c1
footprint INF-PG-TO252-5-11_N (DPAK, 5-Leads, Body 6.5x6.12mm, Pitch 1.14mm, IPC Medium Density)
footprint INF-PG-TO252-5-11_L (DPAK, 5-Leads, Body 6.5x6.12mm, Pitch 1.14mm, IPC High Density)
footprint INF-PG-TO252-5-11_M (DPAK, 5-Leads, Body 6.5x6.12mm, Pitch 1.14mm, IPC Low Density)
pins: 1 I (power) "Input; block to ground directly at the IC with a ceramic capacitor.", 2 PG (oc) "Power Good; open collector output.Add a pull-up resistor of > 5 k ohm to pin Q.", 3 GND (power) "Ground; Pin 6 internally connected to heatsink.", 4 D (in) "Delay; connect a capacitor to GND for setting power good delay  time.", 5 Q (power) "Output; block to ground with a capacitor, C >= 22 uF ESR < 5 ohm at 10 kHz."

## TLE4290G
designator U?
Low Drop Voltage Regulator, 5.5 to 42 V Supply, 5 V Output, -40 to 150 degC, PG-TO263-5-1, Reel, Green; Manufacturer: Infineon; PartNumber: TLE4290G; Accuracy: 2 %; Dropout Voltage: 250 mV; Green: TRUE; Max. Output Current: 400 mA; Output Voltage: 5V; Regulator Type: single output; Typical Quiescent Current: 200 uA; DatasheetVersion: Rev. 1.7; PackageVersion: Sep-08; PackageReference: PG-TO263-5-1; PackageDescription: 5-Pin Plastic (Green) Transistor Single Outline Package, 10 x 9.25 mm Body, 1.7 mm Pitch; Supplier 1: Mouser; Supplier Part Number 1: 726-TLE4290G; Supplier 2: Digi-Key; Supplier Part Number 2: TLE4290GINTR-ND; Supplier 3: Digi-Key; Supplier Part Number 3: TLE4290GINCT-ND; Supplier 4: Digi-Key; Supplier Part Number 4: TLE4290GINDKR-ND; Halogen-free: TRUE; Operating Range: 5.5 to 42 V; Packing: Reel; Mounting Technology: Surface Mount; ComponentLink1Description: Manufacturer URL; ComponentLink1URL: http://www.infineon.com/; ComponentLink2Description: Datasheet; ComponentLink2URL: http://www.infineon.com/dgdl/TLE4290_DS_17%5B1%5D.pdf?folderId=db3a304318f3fe290118f5a433570040&fileId=db3a30431c48a312011c55bbfdbe020b&location=en.Products.Automotive_ICs.Linear_Voltage_Regulators_for_Automotive-Applications.Linear_Voltage_Regulators_-_Selection_Table.DATASHEET.TLE4290_DS_17[1].pdf; ComponentLink3Description: Package Specification; ComponentLink3URL: http://www.infineon.com/dgdl/TLE4675_DS10.pdf?folderId=db3a30431ddc9372011e26863f92474e&fileId=db3a30431ff9881501201fa645654e52&sId=db3a30433d68e984013d8b6677a5267d
footprint INF-PG-TO263-5-1_N (DPAK, 5-Leads, Body 10x9.25mm, Pitch 1.7mm, IPC Medium Density)
footprint INF-PG-TO263-5-1_L (DPAK, 5-Leads, Body 10x9.25mm, Pitch 1.7mm, IPC High Density)
footprint INF-PG-TO263-5-1_M (DPAK, 5-Leads, Body 10x9.25mm, Pitch 1.7mm, IPC Low Density)
pins: 1 I (power) "Input; block to ground directly at the IC with a ceramic capacitor.", 2 PG (oc) "Power Good; open collector output. Add a pull-up resistor of > 5 k ohm to pin Q.", 3 GND (power) "Ground; Pin 3 internally connected to heatsink.", 4 D (in) "Delay; connect a capacitor to GND for setting power good delay  time.", 5 Q (power) "Output; block to ground with a capacitor, C >= 22 uF ESR < 5 ohm at 10 kHz."

## TLE4291E
designator U?
Low Drop Linear Voltage Regulator, 3.3 to 45 V Supply, 5 V Output, -40 to 150 degC, PG-SSOP-14-1, Reel, Green; Manufacturer: Infineon; PartNumber: TLE4291E; Accuracy: 2 %; Dropout Voltage: 250 mV; Green: TRUE; Max. Output Current: 450 mA; Output Voltage: 5V; Regulator Type: single output; Typical Quiescent Current: 220 uA; DatasheetVersion: Rev. 1.1; PackageVersion: Oct-08; PackageReference: PG-SSOP-14-1; PackageDescription: 14-Pin Plastic (Green) Shrink Small Outline Package, 4.9 x 3.9 mm Body, 0.65 mm Pitch; Supplier 1: Digi-Key; Supplier Part Number 1: TLE4291E-ND; Halogen-free: TRUE; Operating Range: 3.3 to 45 V; Packing: Reel; Mounting Technology: Surface Mount; ComponentLink1Description: Manufacturer URL; ComponentLink1URL: http://www.infineon.com/; ComponentLink2Description: Datasheet; ComponentLink2URL: http://www.infineon.com/dgdl/TLE4291-Data-Sheet-11-Infineon.pdf?folderId=db3a304318f3fe290118f5a433570040&fileId=db3a30433072cd8f013074d563a7005a&location=en.Products.Automotive_ICs.Linear_Voltage_Regulators_for_Automotive-Applications.Linear_Voltage_Regulators_-_Selection_Table.DATASHEET.TLE4291-Data-Sheet-11-Infineon.pdf; ComponentLink3Description: Package Specification; ComponentLink3URL: http://www.infineon.com/dgdl/PG-SSOP-14-1%2C-2%2C-3-Package_Overview.pdf?folderId=db3a304319bc939a0119bdaa53bc000b&fileId=db3a30431cdffaa4011ce10d798a0009
footprint INF-PG-SSOP-14-1_N (SOP, 14-Leads, Body 4.9x3.9mm, Pitch 0.65mm, Thermal Pad 3.2x2.85mm, IPC Medium Density)
footprint INF-PG-SSOP-14-1_L (SOP, 14-Leads, Body 4.9x3.9mm, Pitch 0.65mm, Thermal Pad 3.2x2.85mm, IPC High Density)
footprint INF-PG-SSOP-14-1_M (SOP, 14-Leads, Body 4.9x3.9mm, Pitch 0.65mm, Thermal Pad 3.2x2.85mm, IPC Low Density)
part A pins: 1 I (power) "Regulator Input and IC Supply For compensating line influences, a capacitor to GND close to the IC pins is recommended.", 2 EN (in) "Enable High signal enables the regulator; Low signal disables the regulator; Connect to I, if the enable function is not needed.", 4 RO (oc) "Reset Output Open collector output with an internal pull-up resistor to the output Q. An additional external pull-up resistor to the output Q is optional. Leave open if the reset function is not needed.", 6 RADJ (in) "Reset Switching Threshold Adjust For reset threshold adjustment connect to a voltage divider from output Q to GND. For triggering the reset at the internally determined threshold, connect this pin directly to  GND. Connect (See Datasheet)", 7 GND (power) "Ground  Interconnect the GND pins on PCB.  Connect to heat sink area.", 8 D (in) "Reset Delay and Watchdog Timing Connect a ceramic capacitor D (pin 6) to GND for reset delay and watchdog timing  adjustment. Leave only open if both, the reset and the watchdog function are not needed.", 10 WI (in) "Watchdog Input Positive edge triggered input, usable for microcontroller monitoring. Connect to GND if the watchdog function is not needed.", 12 WO (oc) "Watchdog Output Open collector output with an internal pull-up resistor to the output Q. An additional external pull-up resistor to the output Q is optional. Leave open if the watchdog function is not needed.", 14 Q (power) "5 V Regulator Output Block to GND with a capacitor close to the IC pins, respecting capacitance and ESR  requirements given in the Chapter 4.2.", 15 EP (power) "Heat sink connect to PCB heat sink area and GND"
part B pins: 3 NC "Not Connected Internally not connected; Connection to PCB GND recommended", 5 NC "Not Connected Internally not connected; Connection to PCB GND recommended", 9 NC "Not Connected Internally not connected; Connection to PCB GND recommended", 11 NC "Not Connected Internally not connected; Connection to PCB GND recommended", 13 NC "Not Connected Internally not connected; Connection to PCB GND recommended"

## TLE4294G V50
designator U?
Low Drop Voltage Regulator, 5.5 to 42 V Supply, 5 V Output, -40 to 150 degC, PG-SCT595, Reel, Green; Manufacturer: Infineon; PartNumber: TLE4294G V50; Accuracy: 4 %; Dropout Voltage: 250 mV; Green: TRUE; Max. Output Current: 30 mA; Output Voltage: 5V; Regulator Type: single output; Typical Quiescent Current: 120 uA; DatasheetVersion: Rev. 1.1; PackageVersion: Apr-08; PackageReference: PG-SCT595; PackageDescription: 5-Pin Semiconductor Transistor Package, 2.9 x 1.6 mm Body, 0.95 mm Pitch; Supplier 1: Mouser; Supplier Part Number 1: 726-TLE4294GV50; Supplier 2: Digi-Key; Supplier Part Number 2: TLE4294G V50TR-ND; Supplier 3: Digi-Key; Supplier Part Number 3: TLE4294G V50CT-ND; Supplier 4: Digi-Key; Supplier Part Number 4: TLE4294G V50DKR-ND; Operating Range: 5.5 to 42 V; Packing: Reel; Mounting Technology: Surface Mount; ComponentLink1Description: Manufacturer URL; ComponentLink1URL: http://www.infineon.com/; ComponentLink2Description: Datasheet; ComponentLink2URL: http://www.infineon.com/dgdl/TLE4294GV50_DS_11.pdf?folderId=db3a304318f3fe290118f5a433570040&fileId=db3a304326dfb13001271f674ad14f18&location=en.Products.Automotive_ICs.Linear_Voltage_Regulators_for_Automotive-Applications.Linear_Voltage_Regulators_-_Selection_Table.DATASHEET.TLE4294GV50_DS_11.pdf; ComponentLink3Description: Package Specification; ComponentLink3URL: http://www.infineon.com/dgdl/SCT595-Package_Overview.pdf?folderId=db3a30431936bc4b01195289a4e23b8a&fileId=db3a30431936bc4b0119529a880d3bb2
footprint INF-PG-SCT595_V (SOT23, 5-Leads, Body 2.9x1.6mm, Pitch 0.95mm)
pins: 1 NC "Not connected; Internally not connected. Connect to GND", 2 GND (power) "Ground reference; Connected to pin 5", 3 I (power) "Input voltage; For compensating line influences, a capacitor to GND close to the IC terminals is recommended", 4 Q (power) "Output voltage; Block to GND with a capacitor close to the IC terminals, respecting the values given for its capacitance CQ and ESR in the Table 4.2 "Functional Range" on Page 5 (Tantalum capacitor recommended as output (See Datasheet)", 5 GND (power) "Ground reference; Connect to heatsink area; Connected to pin 2"

## TLE4295G V26
designator U?
Low Drop Voltage Regulator, 3.5 to 45 V Supply, 2.6 V Output, -40 to 150 degC, PG-SCT595, Reel; Manufacturer: Infineon; PartNumber: TLE4295G V26; Accuracy: 4 %; Dropout Voltage: 250 mV; Max. Output Current: 30 mA; Output Voltage: 2.6 V; Regulator Type: single output; Typical Quiescent Current: 120 uA; DatasheetVersion: Rev. 1.4; PackageVersion: Apr-08; PackageReference: PG-SCT595; PackageDescription: 5-Pin Semiconductor Transistor Package, 2.9 x 1.6 mm Body, 0.95 mm Pitch; Supplier 1: Mouser; Supplier Part Number 1: 726-TLE4295GV26; Supplier 2: Digi-Key; Supplier Part Number 2: TLE4295G V26-ND; Operating Range: 3.5 to 45 V; Packing: Reel; Mounting Technology: Surface Mount; ComponentLink1Description: Manufacturer URL; ComponentLink1URL: http://www.infineon.com/; ComponentLink2Description: Datasheet; ComponentLink2URL: http://www.infineon.com/dgdl/TLE4295_DS_14.pdf?folderId=db3a304412b407950112b4352a0a6276&fileId=db3a304412b407950112b4352a826277&location=en.Products.Automotive_ICs.Linear_Voltage_Regulators_for_Automotive-Applications.Linear_Voltage_Regulators_-_Selection_Table.DATASHEET.TLE4295_DS_14.pdf; ComponentLink3Description: Package Specification; ComponentLink3URL: http://www.infineon.com/dgdl/SCT595-Package_Overview.pdf?folderId=db3a30431936bc4b01195289a4e23b8a&fileId=db3a30431936bc4b0119529a880d3bb2
footprint INF-PG-SCT595_V (SOT23, 5-Leads, Body 2.9x1.6mm, Pitch 0.95mm)
pins: 1 PF (oc) "Power Fail;L for under-voltage", 2 GND (power) "Ground;connected to pin 5", 3 I (power) "Input voltage", 4 Q (power) "Output voltage;must be blocked a capacitor CQ>=2.2uF, ESR<=5 ohm  to GND(Tantalum capasitor recommended as output capacitor)", 5 GND (power) "Ground;connected to pin2"